# Altium schematic symbol library 0603-Res.SchLib: 1 symbol
Pins are listed as number, name and electrical type; pins without a type are passive.

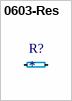
[diagram p0: symbol 0603-Res]

## 0603-Res
designator R?
footprint res-0603
pins: 1, 2